# Altium footprint library Packaging.PcbLib: 2 footprints
Each footprint in its own frame and in the unit in brackets; x right, y up, seen from the top. Pads: shape width x height; smd on the part's side, far side on the other; paste and mask are expansions set on the pad; w line width, h text height; cw(c..) or ccw(c..) is an arc to the next point about the centre after c.
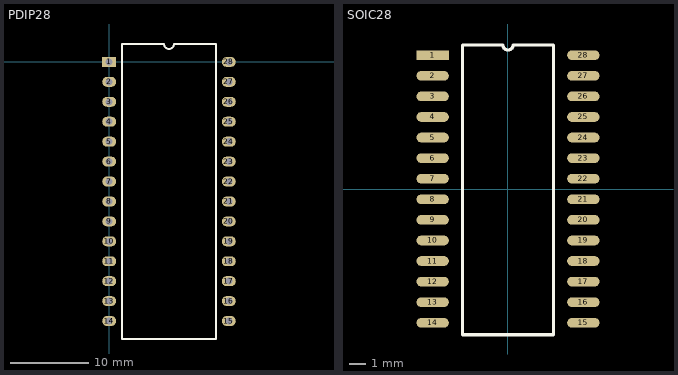
[diagram p0: the footprints below, top view; thin cyan lines are the x and y axes]

## PDIP28 [mil]
pads (28):
  rect 70x50 hole 35: 1(0,0)
  oval 70x50 hole 35: 2(0,-100) 3(0,-200) 4(0,-300) 5(0,-400) 6(0,-500) 7(0,-600) 8(0,-700) 9(0,-800) 10(0,-900) 11(0,-1000) 12(0,-1100) 13(0,-1200) 14(0,-1300) 15(600,-1300) 16(600,-1200) 17(600,-1100) 18(600,-1000) 19(600,-900) 20(600,-800) 21(600,-700) 22(600,-600) 23(600,-500) 24(600,-400) 25(600,-300) 26(600,-200) 27(600,-100) 28(600,0)
Top Overlay:
  lines w10: 63.78,-1390 63.78,90 275,90 ccw(c300,90) 325,90 536.22,90 536.22,-1390 63.78,-1390
3D body: height 0, standoff -125, extent 595,-7.5 605,7.5
3D body: height 50, standoff 0, extent 595,-25 605,25
3D body: height 50, standoff 40, extent 575,-25 595,25
3D body: height 0, standoff -125, extent 595,-107.5 605,-92.5
3D body: height 50, standoff 0, extent 595,-125 605,-75
3D body: height 50, standoff 40, extent 575,-125 595,-75
3D body: height 0, standoff -125, extent 595,-207.5 605,-192.5
3D body: height 50, standoff 0, extent 595,-225 605,-175
3D body: height 50, standoff 40, extent 575,-225 595,-175
3D body: height 0, standoff -125, extent 595,-307.5 605,-292.5
3D body: height 50, standoff 0, extent 595,-325 605,-275
3D body: height 50, standoff 40, extent 575,-325 595,-275
3D body: height 0, standoff -125, extent 595,-407.5 605,-392.5
3D body: height 50, standoff 0, extent 595,-425 605,-375
3D body: height 50, standoff 40, extent 575,-425 595,-375
3D body: height 0, standoff -125, extent 595,-507.5 605,-492.5
3D body: height 50, standoff 0, extent 595,-525 605,-475
3D body: height 50, standoff 40, extent 575,-525 595,-475
3D body: height 0, standoff -125, extent 595,-607.5 605,-592.5
3D body: height 50, standoff 0, extent 595,-625 605,-575
3D body: height 50, standoff 40, extent 575,-625 595,-575
3D body: height 0, standoff -125, extent 595,-707.5 605,-692.5
3D body: height 50, standoff 0, extent 595,-725 605,-675
3D body: height 50, standoff 40, extent 575,-725 595,-675
3D body: height 0, standoff -125, extent 595,-807.5 605,-792.5
3D body: height 50, standoff 0, extent 595,-825 605,-775
3D body: height 50, standoff 40, extent 575,-825 595,-775
3D body: height 0, standoff -125, extent 595,-907.5 605,-892.5
3D body: height 50, standoff 0, extent 595,-925 605,-875
3D body: height 50, standoff 40, extent 575,-925 595,-875
3D body: height 0, standoff -125, extent 595,-1007.5 605,-992.5
3D body: height 50, standoff 0, extent 595,-1025 605,-975
3D body: height 50, standoff 40, extent 575,-1025 595,-975
3D body: height 0, standoff -125, extent 595,-1107.5 605,-1092.5
3D body: height 50, standoff 0, extent 595,-1125 605,-1075
3D body: height 50, standoff 40, extent 575,-1125 595,-1075
3D body: height 0, standoff -125, extent 595,-1207.5 605,-1192.5
3D body: height 50, standoff 0, extent 595,-1225 605,-1175
3D body: height 50, standoff 40, extent 575,-1225 595,-1175
3D body: height 0, standoff -125, extent 595,-1307.5 605,-1292.5
3D body: height 50, standoff 0, extent 595,-1325 605,-1275
3D body: height 50, standoff 40, extent 575,-1325 595,-1275
3D body: height 0, standoff -125, extent -5,-1307.5 5,-1292.5
3D body: height 50, standoff 0, extent -5,-1325 5,-1275
3D body: height 50, standoff 40, extent 5,-1325 25,-1275
3D body: height 0, standoff -125, extent -5,-1207.5 5,-1192.5
3D body: height 50, standoff 0, extent -5,-1225 5,-1175
3D body: height 50, standoff 40, extent 5,-1225 25,-1175
3D body: height 0, standoff -125, extent -5,-1107.5 5,-1092.5
3D body: height 50, standoff 0, extent -5,-1125 5,-1075
3D body: height 50, standoff 40, extent 5,-1125 25,-1075
3D body: height 0, standoff -125, extent -5,-1007.5 5,-992.5
3D body: height 50, standoff 0, extent -5,-1025 5,-975
3D body: height 50, standoff 40, extent 5,-1025 25,-975
3D body: height 0, standoff -125, extent -5,-907.5 5,-892.5
3D body: height 50, standoff 0, extent -5,-925 5,-875
3D body: height 50, standoff 40, extent 5,-925 25,-875
3D body: height 0, standoff -125, extent -5,-807.5 5,-792.5
3D body: height 50, standoff 0, extent -5,-825 5,-775
3D body: height 50, standoff 40, extent 5,-825 25,-775
3D body: height 0, standoff -125, extent -5,-707.5 5,-692.5
3D body: height 50, standoff 0, extent -5,-725 5,-675
3D body: height 50, standoff 40, extent 5,-725 25,-675
3D body: height 0, standoff -125, extent -5,-607.5 5,-592.5
3D body: height 50, standoff 0, extent -5,-625 5,-575
3D body: height 50, standoff 40, extent 5,-625 25,-575
3D body: height 0, standoff -125, extent -5,-507.5 5,-492.5
3D body: height 50, standoff 0, extent -5,-525 5,-475
3D body: height 50, standoff 40, extent 5,-525 25,-475
3D body: height 0, standoff -125, extent -5,-407.5 5,-392.5
3D body: height 50, standoff 0, extent -5,-425 5,-375
3D body: height 50, standoff 40, extent 5,-425 25,-375
3D body: height 0, standoff -125, extent -5,-307.5 5,-292.5
3D body: height 50, standoff 0, extent -5,-325 5,-275
3D body: height 50, standoff 40, extent 5,-325 25,-275
3D body: height 0, standoff -125, extent -5,-207.5 5,-192.5
3D body: height 50, standoff 0, extent -5,-225 5,-175
3D body: height 50, standoff 40, extent 5,-225 25,-175
3D body: height 0, standoff -125, extent -5,-107.5 5,-92.5
3D body: height 50, standoff 0, extent -5,-125 5,-75
3D body: height 50, standoff 40, extent 5,-125 25,-75
3D body: height 0, standoff -125, extent -5,-7.5 5,7.5
3D body: height 50, standoff 0, extent -5,-25 5,25
3D body: height 50, standoff 40, extent 5,-25 25,25
3D body: height 100, standoff 15, extent 25,-1390 575,90.09

## SOIC28 [mm]
pads (28):
  rect 2x0.6 smd: 1(-4.65,8.255)
  oval 2x0.6 smd: 2(-4.65,6.985) 3(-4.65,5.715) 4(-4.65,4.445) 5(-4.65,3.175) 6(-4.65,1.905) 7(-4.65,0.635) 8(-4.65,-0.635) 9(-4.65,-1.905) 10(-4.65,-3.175) 11(-4.65,-4.445) 12(-4.65,-5.715) 13(-4.65,-6.985) 14(-4.65,-8.255) 15(4.65,-8.255) 16(4.65,-6.985) 17(4.65,-5.715) 18(4.65,-4.445) 19(4.65,-3.175) 20(4.65,-1.905) 21(4.65,-0.635) 22(4.65,0.635) 23(4.65,1.905) 24(4.65,3.175) 25(4.65,4.445) 26(4.65,5.715) 27(4.65,6.985) 28(4.65,8.255)
Top Overlay:
  lines w0.2: -2.815,-9 -2.815,8.89 -0.318,8.89 ccw(c0,8.89) 0.318,8.89 2.815,8.89 2.815,-9 -2.815,-9
3D body: height 0.51, standoff 0, extent 3.75,8.001 5.25,8.509
3D body: height 0.51, standoff 0, extent 3.75,6.731 5.25,7.239
3D body: height 0.51, standoff 0, extent 3.75,5.461 5.25,5.969
3D body: height 0.51, standoff 0, extent 3.75,4.191 5.25,4.699
3D body: height 0.51, standoff 0, extent 3.75,2.921 5.25,3.429
3D body: height 0.51, standoff 0, extent 3.75,1.651 5.25,2.159
3D body: height 0.51, standoff 0, extent 3.75,0.381 5.25,0.889
3D body: height 0.51, standoff 0, extent 3.75,-0.889 5.25,-0.381
3D body: height 0.51, standoff 0, extent 3.75,-2.159 5.25,-1.651
3D body: height 0.51, standoff 0, extent 3.75,-3.429 5.25,-2.921
3D body: height 0.51, standoff 0, extent 3.75,-4.699 5.25,-4.191
3D body: height 0.51, standoff 0, extent 3.75,-5.969 5.25,-5.461
3D body: height 0.51, standoff 0, extent 3.75,-7.239 5.25,-6.731
3D body: height 0.51, standoff 0, extent 3.75,-8.509 5.25,-8.001
3D body: height 0.51, standoff 0, extent -5.25,-8.509 -3.75,-8.001
3D body: height 0.51, standoff 0, extent -5.25,-7.239 -3.75,-6.731
3D body: height 0.51, standoff 0, extent -5.25,-5.969 -3.75,-5.461
3D body: height 0.51, standoff 0, extent -5.25,-4.699 -3.75,-4.191
3D body: height 0.51, standoff 0, extent -5.25,-3.429 -3.75,-2.921
3D body: height 0.51, standoff 0, extent -5.25,-2.159 -3.75,-1.651
3D body: height 0.51, standoff 0, extent -5.25,-0.889 -3.75,-0.381
3D body: height 0.51, standoff 0, extent -5.25,0.381 -3.75,0.889
3D body: height 0.51, standoff 0, extent -5.25,1.651 -3.75,2.159
3D body: height 0.51, standoff 0, extent -5.25,2.921 -3.75,3.429
3D body: height 0.51, standoff 0, extent -5.25,4.191 -3.75,4.699
3D body: height 0.51, standoff 0, extent -5.25,5.461 -3.75,5.969
3D body: height 0.51, standoff 0, extent -5.25,6.731 -3.75,7.239
3D body: height 0.51, standoff 0, extent -5.25,8.001 -3.75,8.509
3D body: height 1.75, standoff 0, extent -3.75,-9 3.75,8.891